# Altium footprint library smc.PcbLib: 1 footprints
Each footprint in its own frame and in the unit in brackets; x right, y up, seen from the top. Pads: shape width x height; smd on the part's side, far side on the other; paste and mask are expansions set on the pad; w line width, h text height; cw(c..) or ccw(c..) is an arc to the next point about the centre after c.
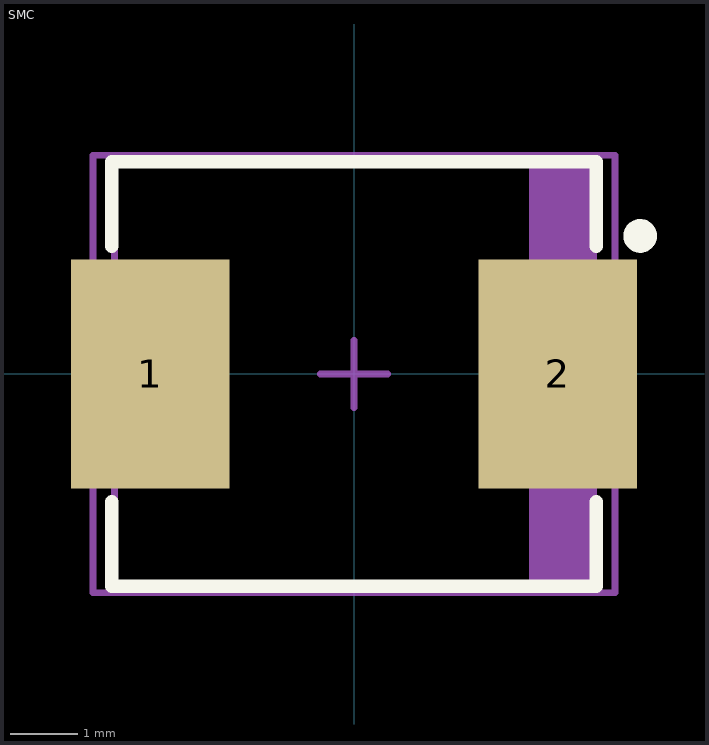
[diagram p0: the footprint, top view; thin cyan lines are the x and y axes]

## SMC [mm] "Molded Diode, 2-Leads, Body 6.9x5.9mm, IPC High Density"
height 2.5
pads (2):
  rect 2.35x3.4 smd: 1(-3.025,0) 2(3.025,0)
Top Overlay:
  circle w0.25: c4.25,2.05 r0.125
  lines w0.2: -3.6,-1.9 -3.6,-3.15 3.6,-3.15 3.6,-1.9 ; -3.6,1.9 -3.6,3.15 3.6,3.15 3.6,1.9
Top 3D Body:
  rectangle: 2.599,-3.11 3.555,3.11
  lines w0.1: -3.555,-3.11 -3.555,3.11 3.555,3.11 3.555,-3.11 -3.555,-3.11
Top Courtyard:
  lines w0.1: -0.5,0 0.5,0 ; 0,-0.5 0,0.5 ; -3.875,-3.25 -3.875,3.25 3.875,3.25 3.875,-3.25 -3.875,-3.25
3D body "User Library-DO-214AB SMC.STEP": height 2.3, standoff 0, extent -3.975,-2.95 3.975,2.95